# Altium schematic symbol library RF Switch.SchLib: 10 symbols
Pins are listed as number, name and electrical type; pins without a type are passive.

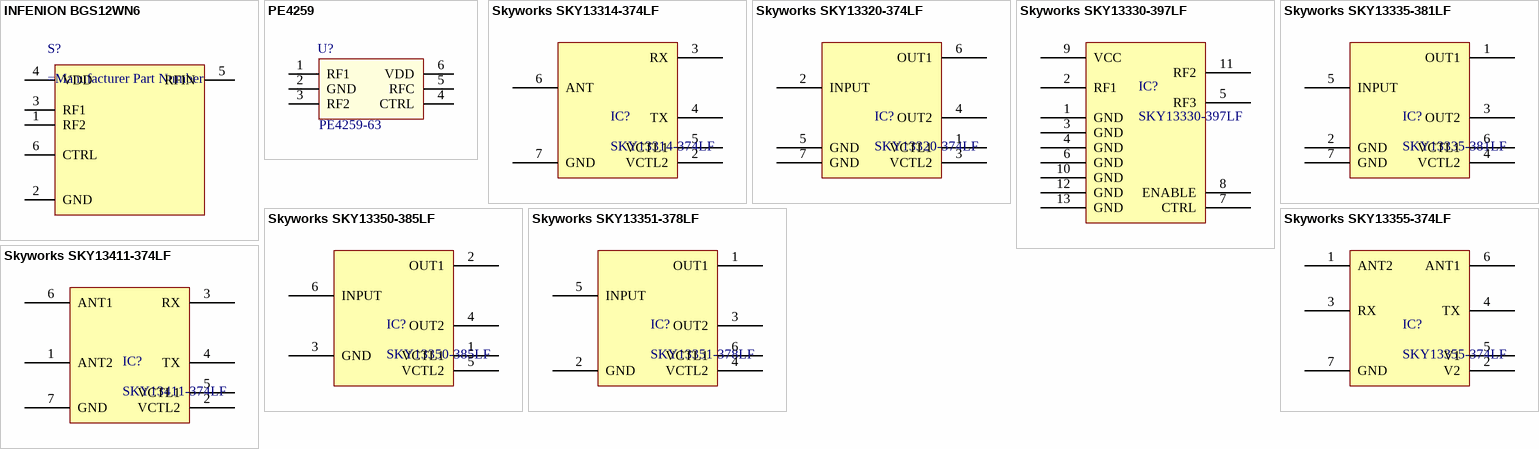
[diagram p0: symbols INFENION BGS12WN6 to Skyworks SKY13411-374LF]

## INFENION BGS12WN6
designator S?
Switch
footprint INFINEON BGS12WN6
pins: 1 RF2, 2 GND, 3 RF1, 4 VDD, 5 RFIN, 6 CTRL

## PE4259
designator U?, comment PE4259-63
The PE4259 UltraCMOS® RF switch is designed to  cover a broad range of applications from 10 MHz  through 3000 MHz.; Manufacturer: Peregrine Semiconductor; Birim Fiyat: 0,65; SPN: 1046-1011-1-ND; RF Type: General Purpose; Topology: Reflective; Frequency - Lower: 10MHz; Impedance: 50 Ohm; Circuit: SPDT; Voltage Supply: 1.8 - 3.6 V; IIP3: 55dBm (typ); P1dB: 29dBm (typ) IP1dB; Insertion Loss @ Frequency: 0.5dB @ 2GHz; Frequency - Upper: 3GHz; Isolation @ Frequency: 20dB @ 2GHz (typ); Depo Kodu: *; Package / Case: 6-TSSOP, SC-88, SOT-363; Satın Alma Linki: https://www.digikey.com/product-detail/en/peregrine-semiconductor/4259-63/1046-1011-1-ND/2614515; Supplier: Digikey; Datasheet: http://www.psemi.com/pdf/datasheets/pe4259ds.pdf; Features: Single/Dual Line Control; Operating Temperature: -40°C ~ 85°C; Series: UltraCMOS®; Packaging: Cut Tape (CT); MPN: PE4259-63
footprint SC70-6 (SC70 6-Leads, Body 2.0x1.25mm, Pitch 0.65mm)
pins: 1 RF1, 2 GND, 3 RF2, 4 CTRL, 5 RFC, 6 VDD

## Skyworks SKY13314-374LF
designator IC?, comment SKY13314-374LF
0.1 to 6.0 GHz GaAs SPDT Switch
pins: 2 VCTL2, 3 RX, 4 TX, 5 VCTL1, 6 ANT, 7 GND

## Skyworks SKY13320-374LF
designator IC?, comment SKY13320-374LF
0.1-6.0 GHz GaAs SPDT Switch
pins: 1 VCTL1, 2 INPUT, 3 VCTL2, 4 OUT2, 5 GND, 6 OUT1, 7 GND

## Skyworks SKY13330-397LF
designator IC?, comment SKY13330-397LF
0.1-6.0GHz SPDT Switch
pins: 1 GND, 2 RF1, 3 GND, 4 GND, 5 RF3, 6 GND, 7 CTRL, 8 ENABLE, 9 VCC, 10 GND, 11 RF2, 12 GND, 13 GND

## Skyworks SKY13335-381LF
designator IC?, comment SKY13335-381LF
0.1-6.0 GHz GaAs SPDT Switch
pins: 1 OUT1, 2 GND, 3 OUT2, 4 VCTL2, 5 INPUT, 6 VCTL1, 7 GND

## Skyworks SKY13350-385LF
designator IC?, comment SKY13350-385LF
0.01-6.0 GHz GaAs SPDT Switch
pins: 1 VCTL1, 2 OUT1, 3 GND, 4 OUT2, 5 VCTL2, 6 INPUT

## Skyworks SKY13351-378LF
designator IC?, comment SKY13351-378LF
20 MHz-6.0 GHz GaAs SPDT Switch
pins: 1 OUT1, 2 GND, 3 OUT2, 4 VCTL2, 5 INPUT, 6 VCTL1

## Skyworks SKY13355-374LF
designator IC?, comment SKY13355-374LF
0.1-6.0 GHz DPDT Switch
pins: 1 ANT2, 2 V2, 3 RX, 4 TX, 5 V1, 6 ANT1, 7 GND

## Skyworks SKY13411-374LF
designator IC?, comment SKY13411-374LF
0.1-6.0 GHz DPDT Switch
pins: 1 ANT2, 2 VCTL2, 3 RX, 4 TX, 5 VCTL1, 6 ANT1, 7 GND